# EAGLE library part SST25VF010A-33 (library Semiconductors > Integrated Circuits - ICs > Memory ICs > Flash)
1 Mbit SPI Serial Flash, 8SOIC
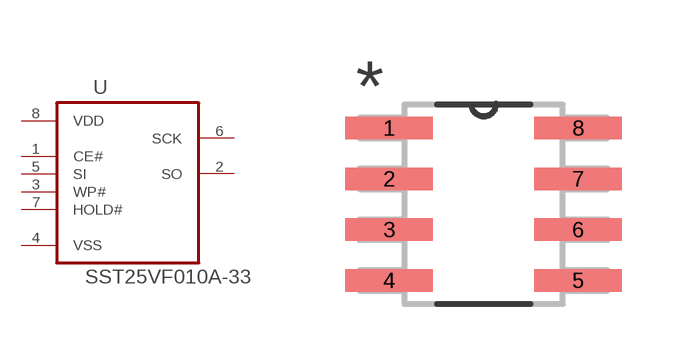
[diagram p0: symbol with the pads of SOIC127P600X175-8N; footprint SOIC127P600X175-8N]

Designator prefix U

## SST25VF010A-33-4C-SAE (MPN: SST25VF010A-33-4C-SAE; OC_FARNELL: 1829949; OC_NEWARK: 92R4532; PACKAGE: SOIC-8; SUPPLIER: MICROCHIP), SST25VF010A-33-4I-SAE (MPN: SST25VF010A-33-4I-SAE; OC_FARNELL: 1368686; OC_NEWARK: 92R4536; PACKAGE: SOIC-8; SUPPLIER: MICROCHIP)  [SOIC127P600X175-8N]
1  CE#  in
2  SO  out
3  WP#  in
4  VSS  pwr
5  SI  in
6  SCK  in
7  HOLD#  in
8  VDD  pwr

## Footprint SOIC127P600X175-8N (pad centres in mm)
smd 2.184 x 0.559: 1 -2.362,1.905; 2 -2.362,0.635; 3 -2.362,-0.635; 4 -2.362,-1.905; 5 2.362,-1.905; 6 2.362,-0.635; 7 2.362,0.635; 8 2.362,1.905